# EAGLE library part NS73M_FM_TRANSMITTER (library eagle-library-engr-245-s22)
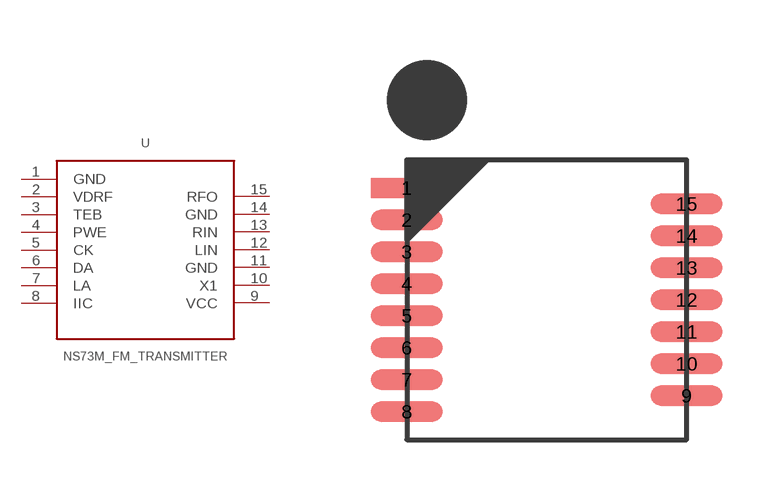
[diagram p19: symbol with the pads of NS73M; footprint NS73M]

Designator prefix U

## NS73M_FM_TRANSMITTER  [NS73M]
1  GND
2  VDRF
3  TEB
4  PWE
5  CK
6  DA
7  LA
8  IIC
9  VCC
10  X1
11  GND
12  LIN
13  RIN
14  GND
15  RFO

## Footprint NS73M (pad centres in mm)
smd 1.8 x 0.5: 1 -3.5,2.8; 2 -3.5,2; 3 -3.5,1.2; 4 -3.5,0.4; 5 -3.5,-0.4; 6 -3.5,-1.2; 7 -3.5,-2; 8 -3.5,-2.8; 9 3.5,-2.4; 10 3.5,-1.6; 11 3.5,-0.8; 12 3.5,0; 13 3.5,0.8; 14 3.5,1.6; 15 3.5,2.4